# Altium footprint library fengzhuang.PcbLib: 13 footprints
Each footprint in its own frame and in the unit in brackets; x right, y up, seen from the top. Pads: shape width x height; smd on the part's side, far side on the other; paste and mask are expansions set on the pad; w line width, h text height; cw(c..) or ccw(c..) is an arc to the next point about the centre after c.
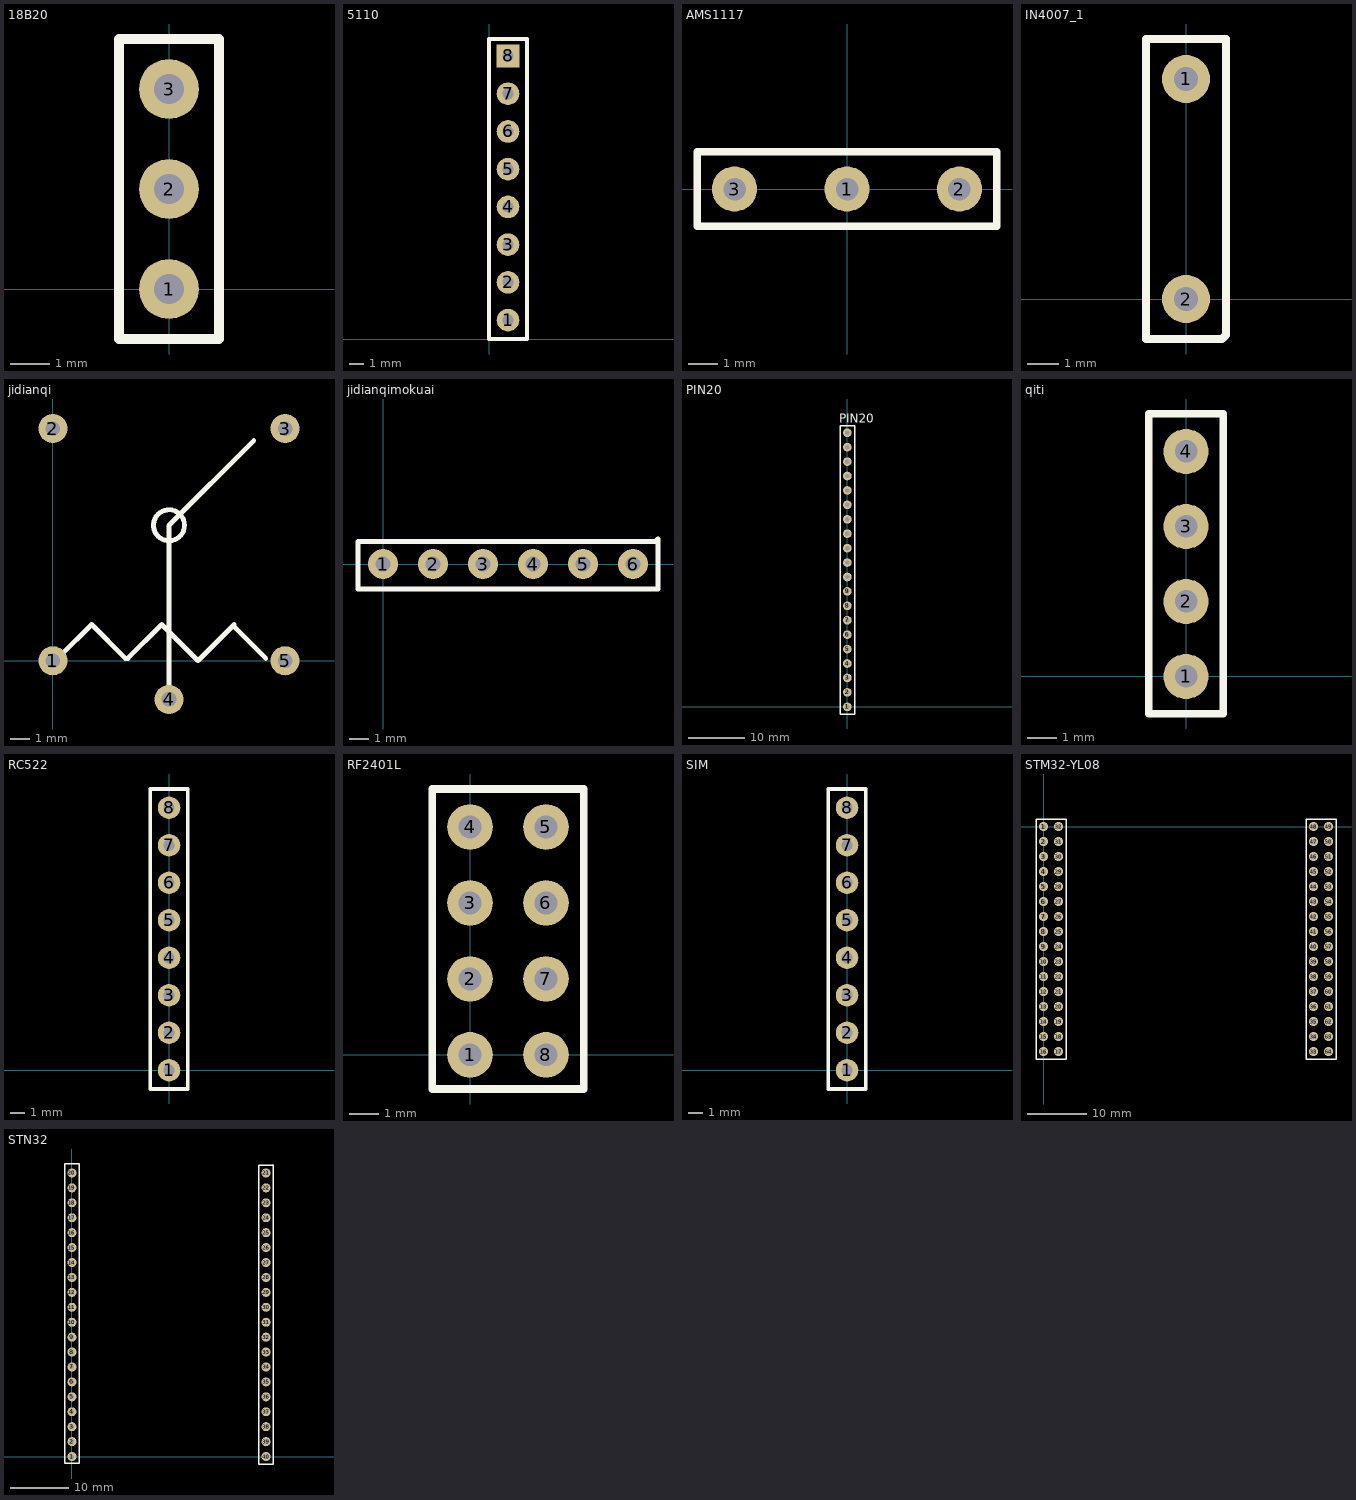
[diagram p0: the footprints below, top view; thin cyan lines are the x and y axes]

## 18B20 [mil]
pads (3):
  round 60 hole 30: 1(0,0) 2(0,100) 3(0,200)
Top Overlay:
  lines w10: -50,-50 50,-50 50,250 -50,250 -50,-50

## 5110 [mil]
pads (8):
  round 60 hole 30: 1(50,50) 2(50,150) 3(50,250) 4(50,350) 5(50,450) 6(50,550) 7(50,650)
  rect 60x60 hole 30: 8(50,750)
Top Overlay:
  lines w10: 0,0 100,0 100,790 ; 0,5 0,795 100,795

## AMS1117 [mil]
pads (3):
  round 60 hole 30: 1(0,0) 2(150,0) 3(-150,0)
Top Overlay:
  lines w10: -200,-50 200,-50 200,50 -200,50 -200,-50

## IN4007_1 [mil]
pads (2):
  round 60 hole 30: 1(0,275) 2(0,0)
Top Overlay:
  lines w10: -50,-50 -50,325 50,325 50,-45 45,-50 -50,-50

## jidianqi [mil]
pads (5):
  round 60 hole 30: 1(0,0) 2(0,480) 3(480,480) 4(240,-80) 5(480,0)
Top Overlay:
  circle w10: c240,280 r32.02
  lines w10: 0,0 5,0 ; 15,10 80,75 150,5 155,5 225,75 300,0 375,75 375,70 440,5 ; 240,-80 240,60 240,280 415,455 ; 475,5 480,0

## jidianqimokuai [mil]
pads (6):
  round 60 hole 30: 1(0,0) 2(100,0) 3(200,0) 4(300,0) 5(400,0) 6(500,0)
Top Overlay:
  lines w10: -50,-50 550,-50 550,50 545,45 -50,45 -50,-50

## PIN20 [mil]
pads (20):
  round 60 hole 30: 1(0,0) 2(0,100) 3(0,200) 4(0,300) 5(0,400) 6(0,500) 7(0,600) 8(0,700) 9(0,800) 10(0,900) 11(0,1000) 12(0,1100) 13(0,1200) 14(0,1300) 15(0,1400) 16(0,1500) 17(0,1600) 18(0,1700) 19(0,1800) 20(0,1900)
Top Overlay:
  lines w10: -50,-50 50,-50 50,1950 -50,1950 -50,-50
  text "PIN20" at -55,1970 h60

## qiti [mil]
pads (4):
  round 60 hole 30: 1(0,0) 2(0,100) 3(0,200) 4(0,300)
Top Overlay:
  lines w10: -50,-50 50,-50 50,350 -50,350 -50,-50

## RC522 [mil]
pads (8):
  round 60 hole 30: 1(0,0) 2(0,100) 3(0,200) 4(0,300) 5(0,400) 6(0,500) 7(0,600) 8(0,700)
Top Overlay:
  lines w10: -50,-50 50,-50 50,750 -50,750 -50,-50

## RF2401L [mil]
pads (8):
  round 60 hole 30: 1(0,0) 2(0,100) 3(0,200) 4(0,300) 5(100,300) 6(100,200) 7(100,100) 8(100,0)
Top Overlay:
  lines w10: -50,-45 150,-45 150,350 -50,350 -50,-45

## SIM [mil]
pads (8):
  round 60 hole 30: 1(0,0) 2(0,100) 3(0,200) 4(0,300) 5(0,400) 6(0,500) 7(0,600) 8(0,700)
Top Overlay:
  lines w10: -50,-50 50,-50 50,750 -50,750 -50,-50

## STM32-YL08 [mil]
pads (64):
  round 60 hole 30: 1(0,0) 2(0,-100) 3(0,-200) 4(0,-300) 5(0,-400) 6(0,-500) 7(0,-600) 8(0,-700) 9(0,-800) 10(0,-900) 11(0,-1000) 12(0,-1100) 13(0,-1200) 14(0,-1300) 15(0,-1400) 16(0,-1500) 17(100,-1500) 18(100,-1400) 19(100,-1300) 20(100,-1200) 21(100,-1100) 22(100,-1000) 23(100,-900) 24(100,-800) 25(100,-700) 26(100,-600) 27(100,-500) 28(100,-400) 29(100,-300) 30(100,-200) 31(100,-100) 32(100,0) 33(1800,-1500) 34(1800,-1400) 35(1800,-1300) 36(1800,-1200) 37(1800,-1100) 38(1800,-1000) 39(1800,-900) 40(1800,-800) 41(1800,-700) 42(1800,-600) 43(1800,-500) 44(1800,-400) 45(1800,-300) 46(1800,-200) 47(1800,-100) 48(1800,0) 49(1900,0) 50(1900,-100) 51(1900,-200) 52(1900,-300) 53(1900,-400) 54(1900,-500) 55(1900,-600) 56(1900,-700) 57(1900,-800) 58(1900,-900) 59(1900,-1000) 60(1900,-1100) 61(1900,-1200) 62(1900,-1300) 63(1900,-1400) 64(1900,-1500)
Top Overlay:
  lines w10: -50,-1550 -50,50 150,50 150,-1550 -50,-1550 ; 1750,-1550 1750,50 1950,50 1950,-1550 1750,-1550

## STN32 [mil]
pads (40):
  round 60 hole 30: 1(0,0) 2(0,100) 3(0,200) 4(0,300) 5(0,400) 6(0,500) 7(0,600) 8(0,700) 9(0,800) 10(0,900) 11(0,1000) 12(0,1100) 13(0,1200) 14(0,1300) 15(0,1400) 16(0,1500) 17(0,1600) 18(0,1700) 19(0,1800) 20(0,1900) 21(1300,1900) 22(1300,1800) 23(1300,1700) 24(1300,1600) 25(1300,1500) 26(1300,1400) 27(1300,1300) 28(1300,1200) 29(1300,1100) 30(1300,1000) 31(1300,900) 32(1300,800) 33(1300,700) 34(1300,600) 35(1300,500) 36(1300,400) 37(1300,300) 38(1300,200) 39(1300,100) 40(1300,0)
Top Overlay:
  lines w10: -50,-45 50,-45 50,1960 -50,1960 -50,-45 ; 1250,-50 1250,1950 1345,1950 1350,1955 1350,-50 1250,-50